# Altium schematic symbol library Logic.SchLib: 35 symbols
Pins are listed as number, name and electrical type; pins without a type are passive.

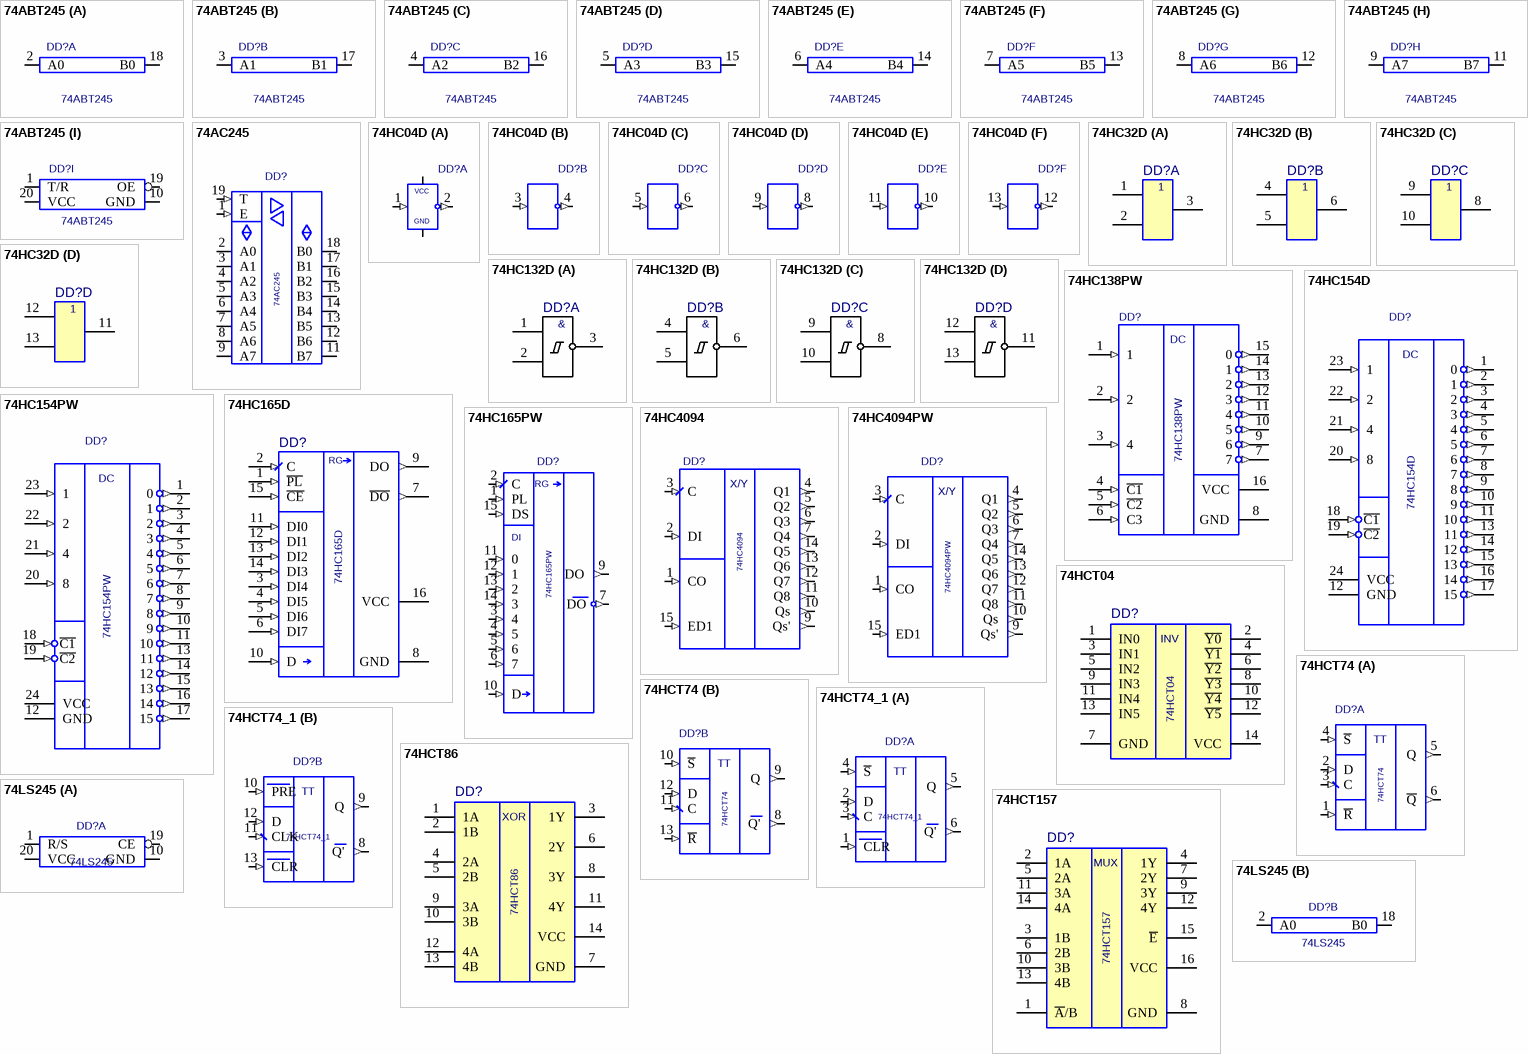
[diagram p0: symbols 74ABT245 to 74LS245]

## 74ABT245
designator DD?
Value: *
footprint SOP20 M20D
part A pins: 2 A0, 18 B0
part B pins: 3 A1, 17 B1
part C pins: 4 A2, 16 B2
part D pins: 5 A3, 15 B3
part E pins: 6 A4, 14 B4
part F pins: 7 A5, 13 B5
part G pins: 8 A6, 12 B6
part H pins: 9 A7, 11 B7
part I pins: 1 T/R, 10 GND, 19 OE, 20 VCC

## 74AC245
designator DD?
Value: *
footprint SO20
pins: 1 E (in), 2 A0 (io), 3 A1 (io), 4 A2 (io), 5 A3 (io), 6 A4 (io), 7 A5 (io), 8 A6 (io), 9 A7 (io), 10 GND (power) hidden to GND, 11 B7 (io), 12 B6 (io), 13 B5 (io), 14 B4 (io), 15 B3 (io), 16 B2 (io), 17 B1 (io), 18 B0 (io), 19 T (in), 20 VCC (power) hidden to VCC

## 74HC04D
designator DD?  (value not drawn)
74HC04D; Value: *
footprint SOIC 14
part A pins: 1 (in), 2 (out), 7 (power), 14 (power)
part B pins: 3 (in), 4 (out)
part C pins: 5 (in), 6 (out)
part D pins: 8 (out), 9 (in)
part E pins: 10 (out), 11 (in)
part F pins: 12 (out), 13 (in)
part A text: VCC; GND

## 74HC32D
designator DD?  (value not drawn)
footprint SOIC 14
pins on every part: 7 GND (power) hidden to GND, 14 VCC (power) hidden to VCC
part A pins: 1, 2, 3
part B pins: 4, 5, 6
part C pins: 8, 9, 10
part D pins: 11, 12, 13

## 74HC132D
designator DD?  (value not drawn)
footprint SOIC 14
pins on every part: 7 GND (power) hidden to GND, 14 VCC (power) hidden to VCC
part A pins: 1, 2, 3
part B pins: 4, 5, 6
part C pins: 8, 9, 10
part D pins: 11, 12, 13
part A text: &
part B text: &
part C text: &
part D text: &

## 74HC138PW
designator DD?
Value: *
footprint TSSOP16 (JEDEC MO-153)
signal-integrity model Model Name (Model Description)
pins: 1 (in), 2 (in), 3 4 (in), 4 ~{C1} (in), 5 ~{C2} (in), 6 C3 (in), 7 (out), 8 GND (power), 9 6 (out), 10 5 (out), 11 4 (out), 12 3 (out), 13 2 (out), 14 1 (out), 15 0 (out), 16 VCC (power)
text: DC

## 74HC154D
designator DD?
Value: *
footprint SO24
pins: 1 0 (out), 2 1 (out), 3 2 (out), 4 3 (out), 5 4 (out), 6 5 (out), 7 6 (out), 8 7 (out), 9 8 (out), 10 9 (out), 11 10 (out), 12 GND (power), 13 11 (out), 14 12 (out), 15 13 (out), 16 14 (out), 17 15 (out), 18 ~{C1} (in), 19 ~{C2} (in), 20 8 (in), 21 4 (in), 22 2 (in), 23 1 (in), 24 VCC (power)
text: DC

## 74HC154PW
designator DD?
Value: *
footprint TSSOP24 (JEDEC MO-153)
pins: 1 0 (out), 2 1 (out), 3 2 (out), 4 3 (out), 5 4 (out), 6 5 (out), 7 6 (out), 8 7 (out), 9 8 (out), 10 9 (out), 11 10 (out), 12 GND (power), 13 11 (out), 14 12 (out), 15 13 (out), 16 14 (out), 17 15 (out), 18 ~{C1} (in), 19 ~{C2} (in), 20 8 (in), 21 4 (in), 22 2 (in), 23 1 (in), 24 VCC (power)
text: DC

## 74HC165D
designator DD?
Value: *
footprint SOIC16
pins: 1 ~{PL} (in), 2 C (in), 3 DI4 (in), 4 DI5 (in), 5 DI6 (in), 6 DI7 (in), 7 ~{DO} (out), 8 GND (power), 9 DO (out), 10 D (in), 11 DI0 (in), 12 DI1 (in), 13 DI2 (in), 14 DI3 (in), 15 ~{CE} (in), 16 VCC (power)
text: RG

## 74HC165PW
designator DD?
Value: *
footprint TSSOP16 (JEDEC MO-153)
pins: 1 PL (in), 2 C (in), 3 4 (in), 4 5 (in), 5 6 (in), 6 7 (in), 7 DO (out), 8 GND (power) hidden, 9 DO (out), 10 D (in), 11 0 (in), 12 1 (in), 13 2 (in), 14 3 (in), 15 DS (in), 16 VCC (power) hidden
text: RG; DI

## 74HC4094
designator DD?
Value: *
footprint SOIC16
pins: 1 CO (in), 2 DI (in), 3 C (in), 4 Q1 (out), 5 Q2 (out), 6 Q3 (out), 7 Q4 (out), 8 GND (power) hidden, 9 Qs' (out), 10 Qs (out), 11 Q8 (out), 12 Q7 (out), 13 Q6 (out), 14 Q5 (out), 15 ED1 (in), 16 VCC (power) hidden
text: X/Y

## 74HC4094PW
designator DD?
Value: *
footprint TSSOP16 (JEDEC MO-153)
pins: 1 CO (in), 2 DI (in), 3 C (in), 4 Q1 (out), 5 Q2 (out), 6 Q3 (out), 7 Q4 (out), 8 GND (power) hidden, 9 Qs' (out), 10 Qs (out), 11 Q8 (out), 12 Q7 (out), 13 Q6 (out), 14 Q5 (out), 15 ED1 (in), 16 VCC (power) hidden
text: X/Y

## 74HCT04
designator DD?
Part Field 1: *; Part Field 2: *
footprint TSSOP14 (JEDEC MO-153)
pins: 1 IN0, 2 ~{Y0}, 3 IN1, 4 ~{Y1}, 5 IN2, 6 ~{Y2}, 7 GND, 8 ~{Y3}, 9 IN3, 10 ~{Y4}, 11 IN4, 12 ~{Y5}, 13 IN5, 14 VCC
text: INV

## 74HCT74
designator DD?
Value: *
footprint SOIC 14
pins on every part: 7 GND (power) hidden to GND, 14 VCC (power) hidden to VCC
part A pins: 1 ~{R} (in), 2 D (in), 3 C (in), 4 ~{S} (in), 5 Q (out), 6 ~{Q} (out)
part B pins: 8 Q' (out), 9 Q (out), 10 ~{S} (in), 11 C (in), 12 D (in), 13 ~{R} (in)
part A text: TT
part B text: TT

## 74HCT74_1
designator DD?
Value: *
footprint SOT108-1
pins on every part: 7 GND (power) hidden, 14 VCC (power) hidden
part A pins: 1 CLR (in), 2 D (in), 3 C (in), 4 ~{S} (in), 5 Q (out), 6 Q' (out)
part B pins: 8 Q' (out), 9 Q (out), 10 PRE (in), 11 CLK (in), 12 D (in), 13 CLR (in)
part A text: TT
part B text: TT

## 74HCT86
designator DD?
Part Field 1: *; Part Field 2: *
footprint TSSOP14 (JEDEC MO-153)
pins: 1 1A, 2 1B, 3 1Y, 4 2A, 5 2B, 6 2Y, 7 GND, 8 3Y, 9 3A, 10 3B, 11 4Y, 12 4A, 13 4B, 14 VCC
text: XOR

## 74HCT157
designator DD?
QUADRUPLE2-LINETO1-LINEDATASELECTORS/MULTIPLEXERS; Part Field 1: *; Part Field 2: *
footprint TSSOP16 (JEDEC MO-153)
pins: 1 ~{A}/B, 2 1A, 3 1B, 4 1Y, 5 2A, 6 2B, 7 2Y, 8 GND, 9 3Y, 10 3B, 11 3A, 12 4Y, 13 4B, 14 4A, 15 ~{E}, 16 VCC
text: MUX

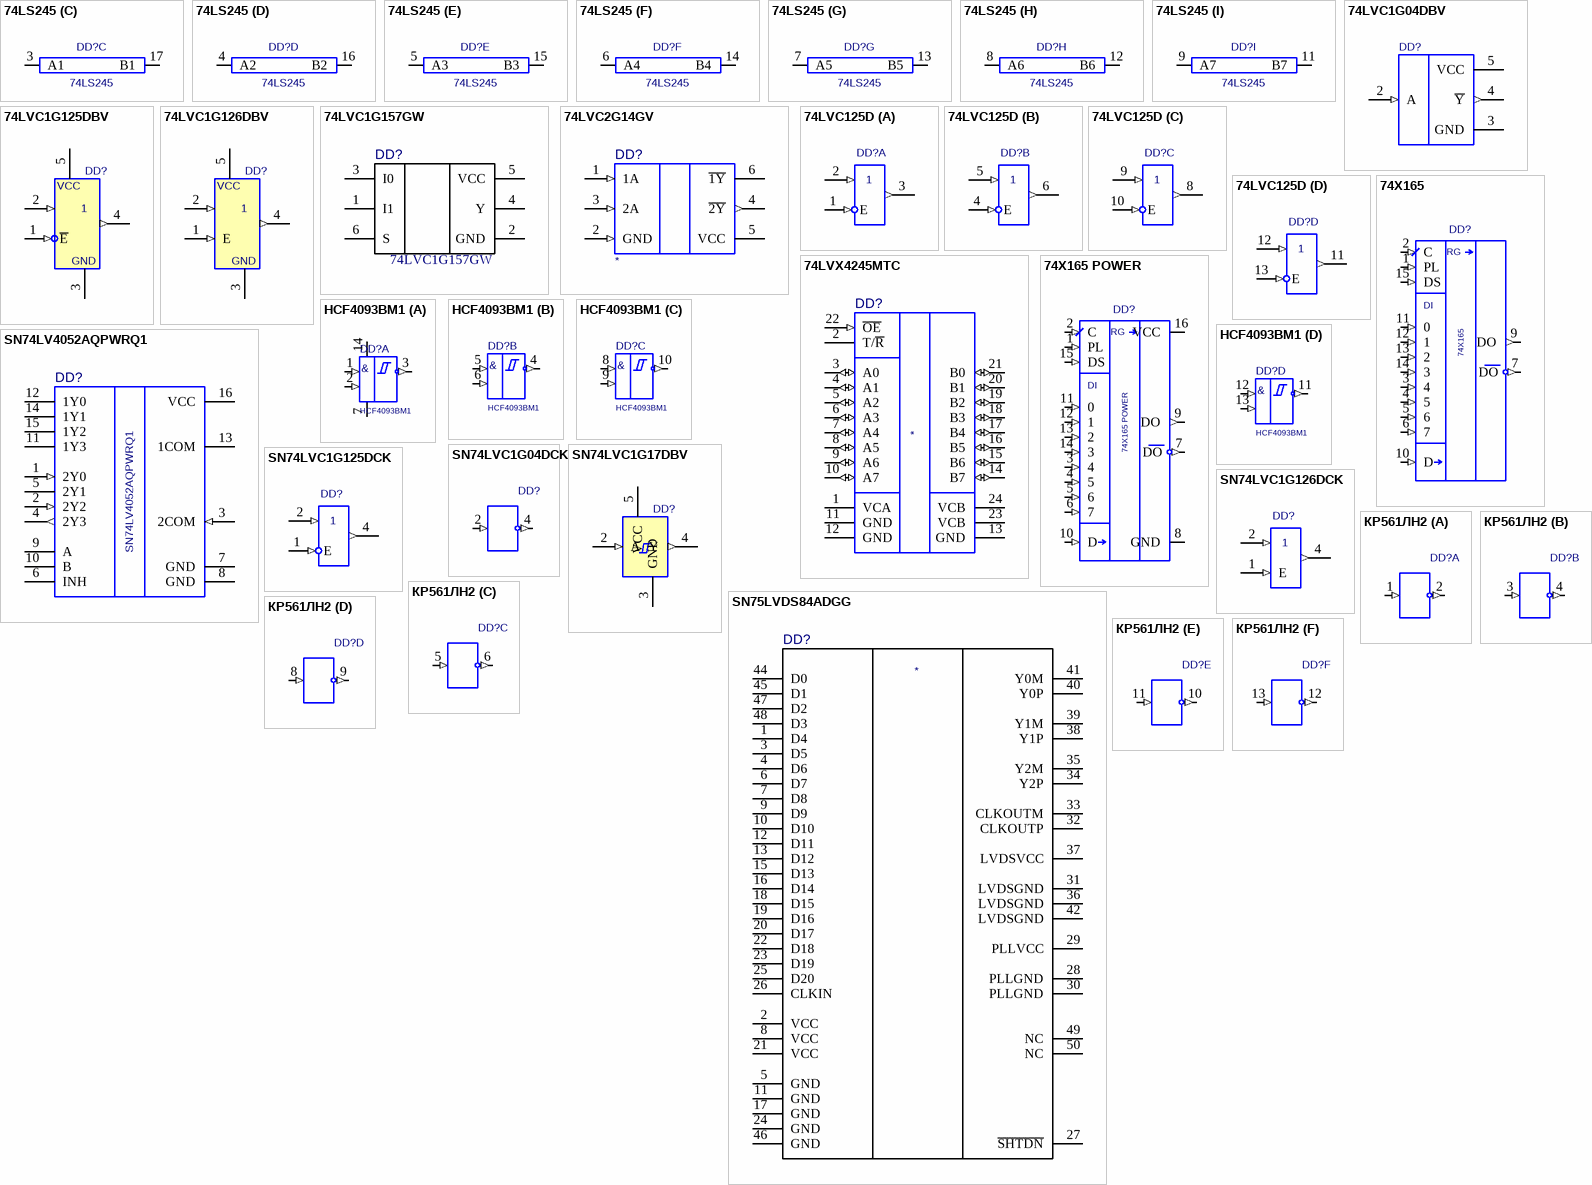
[diagram p1: symbols 74LS245 to КР561ЛН2]

## 74LS245
designator DD?
Value: *
footprint DIP20_Primary
footprint DIP20_SO-G20/G7.1
part A pins: 1 R/S, 10 GND (power), 19 CE, 20 VCC (power)
part B pins: 2 A0, 18 B0
part C pins: 3 A1, 17 B1
part D pins: 4 A2, 16 B2
part E pins: 5 A3, 15 B3
part F pins: 6 A4, 14 B4
part G pins: 7 A5, 13 B5
part H pins: 8 A6, 12 B6
part I pins: 9 A7, 11 B7

## 74LVC1G04DBV
designator DD?  (value not drawn)
74LVC1G04DBV; Value: *
footprint SOT23-5
pins: 2 A (in), 3 GND (power), 4 ~{Y} (out), 5 VCC (power)

## 74LVC1G125DBV
designator DD?  (value not drawn)
74LVC1G125DBV; Value: *
footprint SOT23-5
pins: 1 ~{E} (in), 2 (in), 3 GND (power), 4 (out), 5 VCC (power)
1 alternate drawing of the same symbol

## 74LVC1G126DBV
designator DD?  (value not drawn)
74LVC1G126DBV; Value: *
footprint SOT23-5
pins: 1 E (in), 2 (in), 3 GND (power), 4 (out), 5 VCC (power)

## 74LVC1G157GW
designator DD?
footprint SOT-363 (SC-88)
pins: 1 I1, 2 GND, 3 I0, 4 Y, 5 VCC, 6 S

## 74LVC2G14GV
designator DD?
footprint SOT23-6  (SOT457) (SC-74)
pins: 1 1A (in), 2 GND (in), 3 2A (in), 4 ~{2Y} (out), 5 VCC (power), 6 ~{1Y} (power)

## 74LVC125D
designator DD?  (value not drawn)
74LVC125D; Value: *
footprint SOIC 14
pins on every part: 7 GND (power) hidden, 14 VCC (power) hidden
part A pins: 1 E (in), 2 (in), 3 (out)
part B pins: 4 E (in), 5 (in), 6 (out)
part C pins: 8 (out), 9 (in), 10 E (in)
part D pins: 11 (out), 12 (in), 13 E (in)

## 74LVX4245MTC
designator DD?
74LVX4245MTC; Value: *
footprint TSSOP24 (JEDEC MO-153)
pins: 1 VCA, 2 T/~{R}, 3 A0 (io), 4 A1 (io), 5 A2 (io), 6 A3 (io), 7 A4 (io), 8 A5 (io), 9 A6 (io), 10 A7 (io), 11 GND (power), 12 GND (power), 13 GND (power), 14 B7 (io), 15 B6 (io), 16 B5 (io), 17 B4 (io), 18 B3 (io), 19 B2 (io), 20 B1 (io), 21 B0 (io), 22 ~{OE} (in), 23 VCB (power), 24 VCB (power)

## 74X165
designator DD?
Value: *
footprint SOIC16
pins: 1 PL (in), 2 C (in), 3 4 (in), 4 5 (in), 5 6 (in), 6 7 (in), 7 DO (out), 8 GND (power) hidden, 9 DO (out), 10 D (in), 11 0 (in), 12 1 (in), 13 2 (in), 14 3 (in), 15 DS (in), 16 VCC (power) hidden
text: RG; DI

## 74X165 POWER
designator DD?
Value: *
footprint SOIC16
pins: 1 PL (in), 2 C (in), 3 4 (in), 4 5 (in), 5 6 (in), 6 7 (in), 7 DO (out), 8 GND, 9 DO (out), 10 D (in), 11 0 (in), 12 1 (in), 13 2 (in), 14 3 (in), 15 DS (in), 16 VCC
text: RG; DI

## HCF4093BM1
designator DD?
Value: *
footprint SOIC 14
part A pins: 1 (in), 2 (in), 3 (out), 7, 14
part B pins: 4 (out), 5 (in), 6 (in)
part C pins: 8 (in), 9 (in), 10 (out)
part D pins: 11 (out), 12 (in), 13 (in)
part A text: &
part B text: &
part C text: &
part D text: &

## SN74LV4052AQPWRQ1
designator DD?
footprint TSSOP16 (JEDEC MO-153)
pins: 1 2Y0 (in), 2 2Y2 (in), 3 2COM (in), 4 2Y3 (out), 5 2Y1 (power), 6 INH (power), 7 GND (power), 8 GND (power), 9 A (power), 10 B (power), 11 1Y3 (power), 12 1Y0 (power), 13 1COM (power), 14 1Y1 (power), 15 1Y2 (power), 16 VCC (power)

## SN74LVC1G04DCK
designator DD?  (value not drawn)
SN74LVC1G04DCK; Value: *
footprint SC-70
signal-integrity model Model Name (Model Description)
pins: 1 hidden, 2 (in), 3 GND (power) hidden, 4 (out), 5 VCC (power) hidden

## SN74LVC1G17DBV
designator DD?  (value not drawn)
Value: *
footprint SOT23-5
pins: 2 A (in), 3 GND (power), 4 Y (out), 5 VCC (power)
1 alternate drawing of the same symbol

## SN74LVC1G125DCK
designator DD?  (value not drawn)
SN74LVC1G125DCK; Value: *
footprint SC-70
pins: 1 E (in), 2 (in), 3 GND (power) hidden, 4 (out), 5 VCC (power) hidden

## SN74LVC1G126DCK
designator DD?  (value not drawn)
SN74LVC1G126DCK; Value: *
footprint SC-70
pins: 1 E (in), 2 (in), 3 GND (power) hidden, 4 (out), 5 VCC (power) hidden

## SN75LVDS84ADGG
designator DD?
footprint TSSOP48 (JEDEC MO-153)
pins: 1 D4, 2 VCC, 3 D5, 4 D6, 5 GND, 6 D7, 7 D8, 8 VCC, 9 D9, 10 D10, 11 GND, 12 D11, 13 D12, 15 D13, 16 D14, 17 GND, 18 D15, 19 D16, 20 D17, 21 VCC, 22 D18, 23 D19, 24 GND, 25 D20, 26 CLKIN, 27 ~{SHTDN}, 28 PLLGND, 29 PLLVCC, 30 PLLGND, 31 LVDSGND, 32 CLKOUTP, 33 CLKOUTM, 34 Y2P, 35 Y2M, 36 LVDSGND, 37 LVDSVCC, 38 Y1P, 39 Y1M, 40 Y0P, 41 Y0M, 42 LVDSGND, 44 D0, 45 D1, 46 GND, 47 D2, 48 D3, 49 NC, 50 NC

## КР561ЛН2
designator DD?  (value not drawn)
КР561ЛН2; Value: *
footprint DIP14_Primary
footprint DIP14_prim125
pins on every part: 7 GND (power) hidden, 14 VCC (power) hidden
part A pins: 1 (in), 2 (out)
part B pins: 3 (in), 4 (out)
part C pins: 5 (in), 6 (out)
part D pins: 8 (in), 9 (out)
part E pins: 10 (out), 11 (in)
part F pins: 12 (out), 13 (in)